# Altium footprint library Pogo-Pins.PcbLib: 2 footprints
Each footprint in its own frame and in the unit in brackets; x right, y up, seen from the top. Pads: shape width x height; smd on the part's side, far side on the other; paste and mask are expansions set on the pad; w line width, h text height; cw(c..) or ccw(c..) is an arc to the next point about the centre after c.
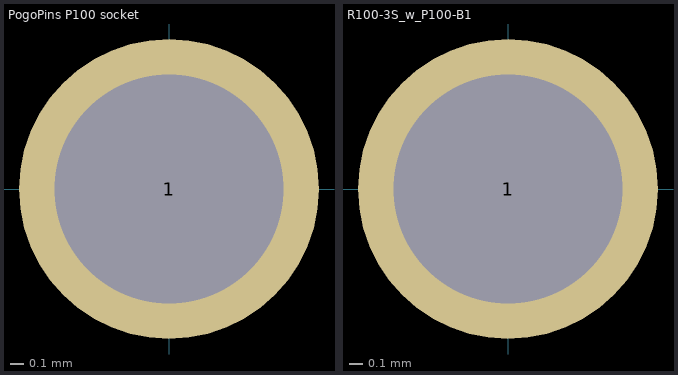
[diagram p0: the footprints below, top view; thin cyan lines are the x and y axes]

## PogoPins P100 socket [mil] "PogoPins P100 socket Bottom/Solder"
pads (1):
  round 87 hole 66.54: 1(0,0)

## R100-3S_w_P100-B1 [mil] "PogoPins P100 socket 5mm"
pads (1):
  round 87 hole 66.54: 1(0,0)